# EAGLE library part 101-00405-75 (library launchpad_bp)
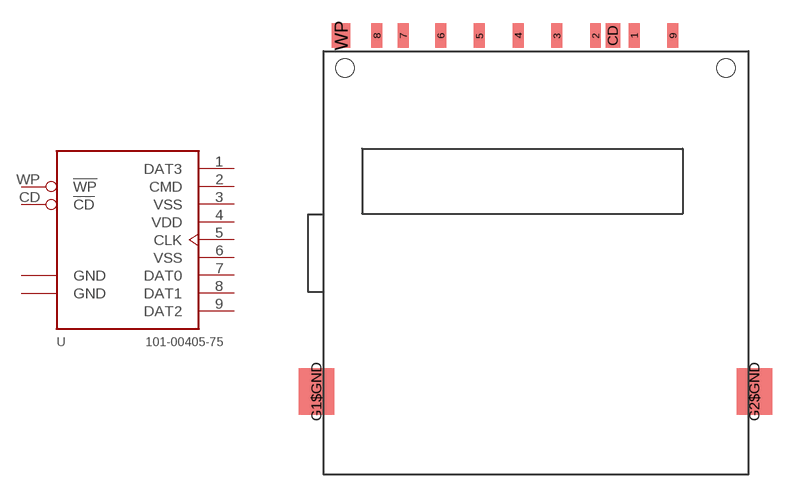
[diagram p11: symbol with the pads of 101-00405-75; footprint 101-00405-75]

Designator prefix -

## 101-00405-75  [101-00405-75]
1  DAT3
2  CMD
3  VSS  pwr
4  VDD  pwr
5  CLK  in
6  VSS  pwr
7  DAT0
8  DAT1
9  DAT2
CD  !CD  pas
G1$GND  GND  pwr
G2$GND  GND  pwr
WP  !WP  pas

## Footprint 101-00405-75 (pad centres in mm)
smd 0.7 x 1.6: 1 -2.5,0; 2 -5,0; 3 -7.5,0; 4 -10,0; 5 -12.5,0; 6 -15,0; 7 -17.425,0; 8 -19.125,0; 9 0,0
smd 0.95 x 1.6: CD -3.875,0
smd 2.3 x 3: G1$GND -23.025,-23; G2$GND 5.275,-23
smd 1.2 x 1.6: WP -21.43,0
hole 1.2 at -21.175,-2.1
hole 1.2 at 3.425,-2.1